# Altium integrated library TI Amplifiers and Linear Operational Amplifier High Speed.IntLib: 1100 symbols (part 11 of 44)
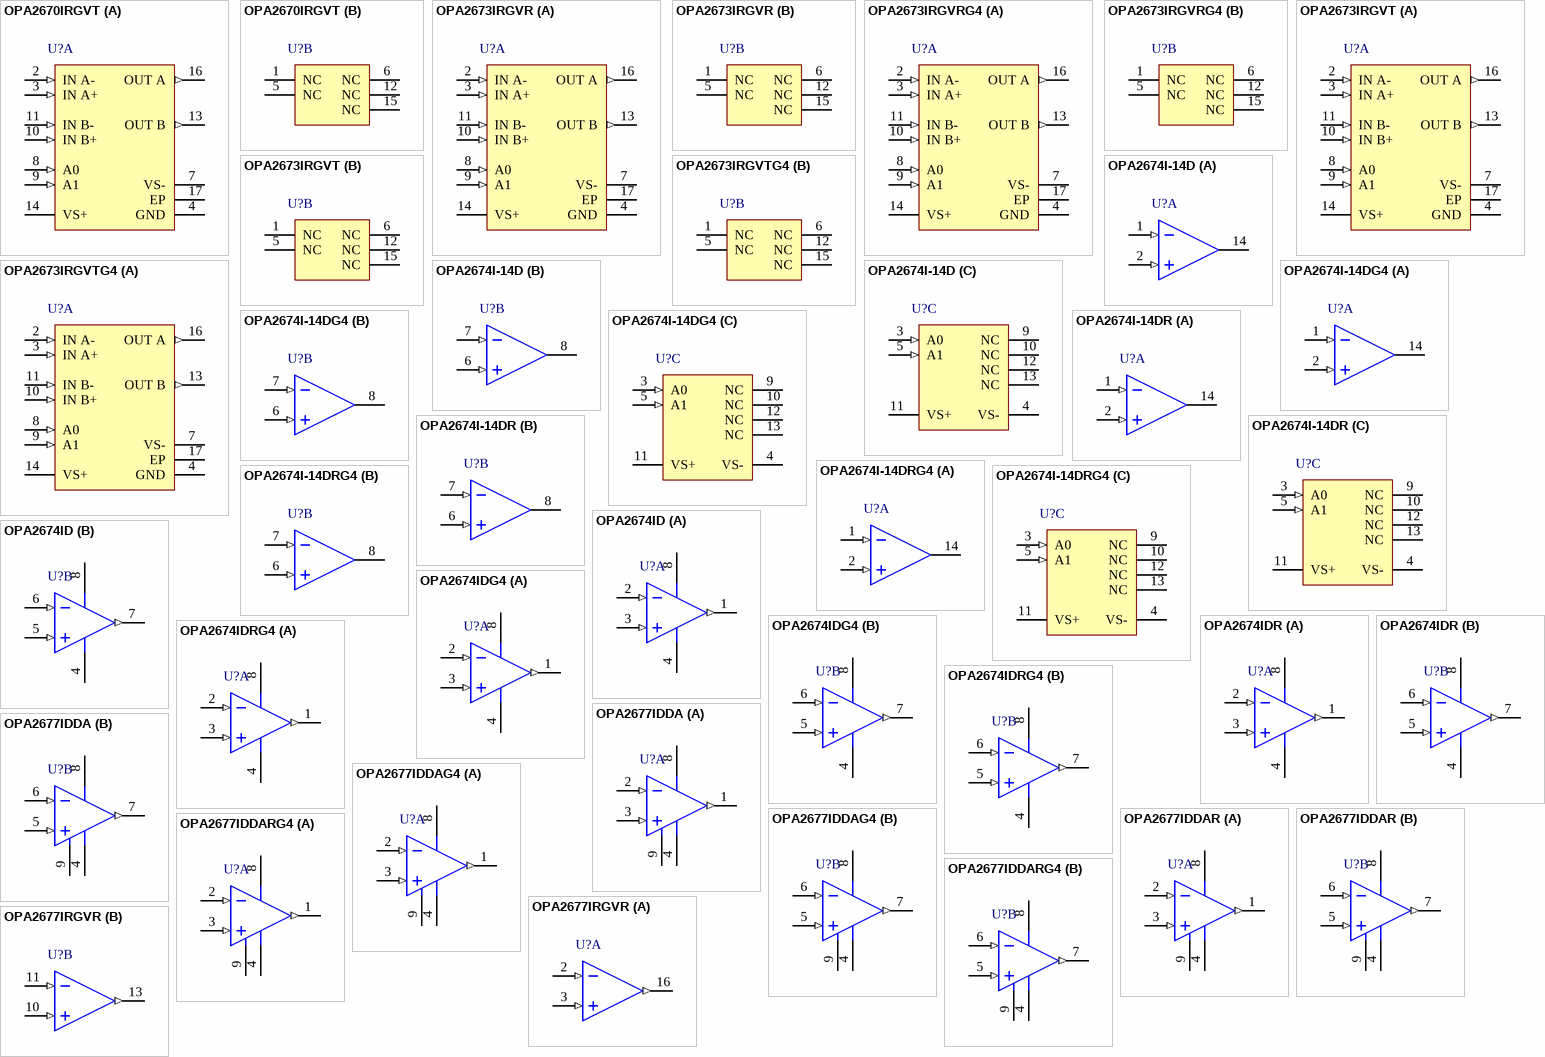
[diagram p61: symbols OPA2670IRGVT to OPA2677IRGVR]

## OPA2674ID
designator U?
Dual Wideband, High Output Current, Operational Amplifier with Current Limit, 5 to 12 V, -40 to 85 degC, 8-pin SOIC (D8), Green (RoHS & no Sb/Br); Manufacturer: Texas Instruments; PartNumber: OPA2674ID; 2nd Harmonic(dBc): 82; 3rd Harmonic(dBc): 93; @ MHz: 5; Acl, min stable gain(V/V): 1; BW @ Acl(MHz): 250; Diff Gain(%): 0.03; Diff Phase(deg): 0.01; Iib(Max)(nA): 35000; Io(Typ)(mA): 500; Iq per channel(Max)(mA): 19.2; Number of Channels: 2; Slew Rate(Typ)(V/us): 2000; Sub Family: High Output Current Amplifier (>=50mA), High Speed Amplifier (>=50MHz); THD (Fc is 1 MHz)(Typ)(dB): -86; Vio(Max)(mV): 5.3; Vs(Max)(V): 12; DatasheetVersion: SBOS270C; PackageVersion: 4040047-3/M, 06/2011; PackageReference: D8; PackageDescription: 8-Pin Plastic Small Outline, Body 4.9 x 3.9 mm, Pitch 1.27 mm; Supplier 1: Digi-Key; Supplier Part Number 1: 296-15212-5-ND; Supplier 2: Newark; Supplier Part Number 2: 73H4297; Supplier 3: Mouser; Supplier Part Number 3: 595-OPA2674ID; Eco-Plan: Green (RoHS & no Sb/Br); Vn at Flatband(Typ)(nV/rtHz): 2; Vs(Min)(V): 5; Mounting Technology: Surface Mount; Code_JEDEC: MS-012; ComponentLink1Description: Manufacturer URL; ComponentLink1URL: http://www.ti.com/; ComponentLink2Description: Datasheet; ComponentLink2URL: http://www.ti.com/general/docs/lit/getliterature.tsp?genericPartNumber=OPA2674&fileType=pdf; ComponentLink3Description: Package Specification; ComponentLink3URL: http://www.ti.com/litv/pdf/msoi002j
footprint TI-D8_N (SOIC, 8-Leads, Body 4.9x3.9mm, Pitch 1.27mm, IPC Medium Density)
footprint TI-D8_L (SOIC, 8-Leads, Body 4.9x3.9mm, Pitch 1.27mm, IPC High Density)
footprint TI-D8_M (SOIC, 8-Leads, Body 4.9x3.9mm, Pitch 1.27mm, IPC Low Density)
pins on every part: 4 VS- (power), 8 VS+ (power)
part A pins: 1 OUT A (out), 2 IN A- (in), 3 IN A+ (in)
part B pins: 5 IN B+ (in), 6 IN B- (in), 7 OUT B (out)

## OPA2674IDG4
designator U?
Dual Wideband, High Output Current, Operational Amplifier with Current Limit, 5 to 12 V, -40 to 85 degC, 8-pin SOIC (D8), Green (RoHS & no Sb/Br); Manufacturer: Texas Instruments; PartNumber: OPA2674IDG4; 2nd Harmonic(dBc): 82; 3rd Harmonic(dBc): 93; @ MHz: 5; Acl, min stable gain(V/V): 1; BW @ Acl(MHz): 250; Diff Gain(%): 0.03; Diff Phase(deg): 0.01; Iib(Max)(nA): 35000; Io(Typ)(mA): 500; Iq per channel(Max)(mA): 19.2; Number of Channels: 2; Slew Rate(Typ)(V/us): 2000; Sub Family: High Output Current Amplifier (>=50mA), High Speed Amplifier (>=50MHz); THD (Fc is 1 MHz)(Typ)(dB): -86; Vs(Max)(V): 12; DatasheetVersion: SBOS270C; PackageVersion: 4040047-3/M, 06/2011; PackageReference: D8; PackageDescription: 8-Pin Plastic Small Outline, Body 4.9 x 3.9 mm, Pitch 1.27 mm; Supplier 1: Digi-Key; Supplier Part Number 1: OPA2674IDG4-ND; Supplier 2: Farnell; Supplier Part Number 2: 1207107; Supplier 3: Newark; Supplier Part Number 3: 97K6817; Supplier 4: Mouser; Supplier Part Number 4: 595-OPA2674IDG4; Eco-Plan: Green (RoHS & no Sb/Br); Vio(Max)(mV): 1; Vn at Flatband(Typ)(nV/rtHz): 2; Vs(Min)(V): 5; Mounting Technology: Surface Mount; Code_JEDEC: MS-012; ComponentLink1Description: Manufacturer URL; ComponentLink1URL: http://www.ti.com/; ComponentLink2Description: Datasheet; ComponentLink2URL: http://www.ti.com/general/docs/lit/getliterature.tsp?genericPartNumber=OPA2674&fileType=pdf; ComponentLink3Description: Package Specification; ComponentLink3URL: http://www.ti.com/litv/pdf/msoi002j
footprint TI-D8_N (SOIC, 8-Leads, Body 4.9x3.9mm, Pitch 1.27mm, IPC Medium Density)
footprint TI-D8_L (SOIC, 8-Leads, Body 4.9x3.9mm, Pitch 1.27mm, IPC High Density)
footprint TI-D8_M (SOIC, 8-Leads, Body 4.9x3.9mm, Pitch 1.27mm, IPC Low Density)
pins on every part: 4 VS- (power), 8 VS+ (power)
part A pins: 1 OUT A (out), 2 IN A- (in), 3 IN A+ (in)
part B pins: 5 IN B+ (in), 6 IN B- (in), 7 OUT B (out)

## OPA2674IDR
designator U?
Dual Wideband, High Output Current, Operational Amplifier with Current Limit, 5 to 12 V, -40 to 85 degC, 8-pin SOIC (D8), Green (RoHS & no Sb/Br); Manufacturer: Texas Instruments; PartNumber: OPA2674IDR; 2nd Harmonic(dBc): 82; 3rd Harmonic(dBc): 93; @ MHz: 5; Acl, min stable gain(V/V): 1; BW @ Acl(MHz): 250; Diff Gain(%): 0.03; Diff Phase(deg): 0.01; Iib(Max)(nA): 35000; Io(Typ)(mA): 500; Iq per channel(Max)(mA): 19.2; Number of Channels: 2; Slew Rate(Typ)(V/us): 2000; Sub Family: High Output Current Amplifier (>=50mA), High Speed Amplifier (>=50MHz); THD (Fc is 1 MHz)(Typ)(dB): -86; Vs(Max)(V): 12; DatasheetVersion: SBOS270C; PackageVersion: 4040047-3/M, 06/2011; PackageReference: D8; PackageDescription: 8-Pin Plastic Small Outline, Body 4.9 x 3.9 mm, Pitch 1.27 mm; Supplier 1: Digi-Key; Supplier Part Number 1: OPA2674IDR-ND; Supplier 2: Newark; Supplier Part Number 2: 73H4298; Supplier 3: Mouser; Supplier Part Number 3: 595-OPA2674IDR; Eco-Plan: Green (RoHS & no Sb/Br); Vio(Max)(mV): 1; Vn at Flatband(Typ)(nV/rtHz): 2; Vs(Min)(V): 5; Mounting Technology: Surface Mount; Code_JEDEC: MS-012; ComponentLink1Description: Manufacturer URL; ComponentLink1URL: http://www.ti.com/; ComponentLink2Description: Datasheet; ComponentLink2URL: http://www.ti.com/general/docs/lit/getliterature.tsp?genericPartNumber=OPA2674&fileType=pdf; ComponentLink3Description: Package Specification; ComponentLink3URL: http://www.ti.com/litv/pdf/msoi002j
footprint TI-D8_N (SOIC, 8-Leads, Body 4.9x3.9mm, Pitch 1.27mm, IPC Medium Density)
footprint TI-D8_L (SOIC, 8-Leads, Body 4.9x3.9mm, Pitch 1.27mm, IPC High Density)
footprint TI-D8_M (SOIC, 8-Leads, Body 4.9x3.9mm, Pitch 1.27mm, IPC Low Density)
pins on every part: 4 VS- (power), 8 VS+ (power)
part A pins: 1 OUT A (out), 2 IN A- (in), 3 IN A+ (in)
part B pins: 5 IN B+ (in), 6 IN B- (in), 7 OUT B (out)

## OPA2674IDRG4
designator U?
Dual Wideband, High Output Current, Operational Amplifier with Current Limit, 5 to 12 V, -40 to 85 degC, 8-pin SOIC (D8), Green (RoHS & no Sb/Br); Manufacturer: Texas Instruments; PartNumber: OPA2674IDRG4; 2nd Harmonic(dBc): 82; 3rd Harmonic(dBc): 93; @ MHz: 5; Acl, min stable gain(V/V): 1; BW @ Acl(MHz): 250; Diff Gain(%): 0.03; Diff Phase(deg): 0.01; Iib(Max)(nA): 35000; Io(Typ)(mA): 500; Iq per channel(Max)(mA): 19.2; Number of Channels: 2; Slew Rate(Typ)(V/us): 2000; Sub Family: High Output Current Amplifier (>=50mA), High Speed Amplifier (>=50MHz); THD (Fc is 1 MHz)(Typ)(dB): -86; Vs(Max)(V): 12; DatasheetVersion: SBOS270C; PackageVersion: 4040047-3/M, 06/2011; PackageReference: D8; PackageDescription: 8-Pin Plastic Small Outline, Body 4.9 x 3.9 mm, Pitch 1.27 mm; Supplier 1: Digi-Key; Supplier Part Number 1: OPA2674IDRG4-ND; Supplier 2: Mouser; Supplier Part Number 2: 595-OPA2674IDRG4; Eco-Plan: Green (RoHS & no Sb/Br); Vio(Max)(mV): 1; Vn at Flatband(Typ)(nV/rtHz): 2; Vs(Min)(V): 5; Mounting Technology: Surface Mount; Code_JEDEC: MS-012; ComponentLink1Description: Manufacturer URL; ComponentLink1URL: http://www.ti.com/; ComponentLink2Description: Datasheet; ComponentLink2URL: http://www.ti.com/general/docs/lit/getliterature.tsp?genericPartNumber=OPA2674&fileType=pdf; ComponentLink3Description: Package Specification; ComponentLink3URL: http://www.ti.com/litv/pdf/msoi002j
footprint TI-D8_N (SOIC, 8-Leads, Body 4.9x3.9mm, Pitch 1.27mm, IPC Medium Density)
footprint TI-D8_L (SOIC, 8-Leads, Body 4.9x3.9mm, Pitch 1.27mm, IPC High Density)
footprint TI-D8_M (SOIC, 8-Leads, Body 4.9x3.9mm, Pitch 1.27mm, IPC Low Density)
pins on every part: 4 VS- (power), 8 VS+ (power)
part A pins: 1 OUT A (out), 2 IN A- (in), 3 IN A+ (in)
part B pins: 5 IN B+ (in), 6 IN B- (in), 7 OUT B (out)

## OPA2677IDDA
designator U?
SpeedPlus(TM) Dual, Wideband, High Output Current Operational Amplifier, 5 to 12 V, -40 to 85 degC, 8-pin SOP (DDA8), Green (RoHS & no Sb/Br); Manufacturer: Texas Instruments; PartNumber: OPA2677IDDA; 2nd Harmonic(dBc): 80; @ MHz: 5; Acl, min stable gain(V/V): 1; BW @ Acl(MHz): 220; Diff Gain(%): 0.03; Diff Phase(deg): 0.01; Iib(Max)(nA): 35000; Io(Typ)(mA): 500; Iq per channel(Max)(mA): 19.5; Number of Channels: 2; Slew Rate(Typ)(V/us): 1800; Sub Family: High Output Current Amplifier (>=50mA), High Speed Amplifier (>=50MHz); THD (Fc is 1 MHz)(Typ)(dB): -75; Vio(Max)(mV): 5.5; Vs(Max)(V): 12; DatasheetVersion: SBOS126I; PackageVersion: 4202561/F, 12/2011; PackageReference: DDA8-2745X2245TP; PackageDescription: 8-Pin PowerPAD(TM) Plastic Small Outline, Body 3.9 x 4.9 mm, Pitch 1.27 mm; Supplier 1: Digi-Key; Supplier Part Number 1: 296-33472-5-ND; Supplier 2: Newark; Supplier Part Number 2: 72M4283; Supplier 3: Mouser; Supplier Part Number 3: 595-OPA2677IDDA; 3rd Harmonic(dBc): 80; Eco-Plan: Green (RoHS & no Sb/Br); Vn at Flatband(Typ)(nV/rtHz): 2; Vs(Min)(V): 5; Mounting Technology: Surface Mount; Code_JEDEC: MS-012; ComponentLink1Description: Manufacturer URL; ComponentLink1URL: http://www.ti.com/; ComponentLink2Description: Datasheet; ComponentLink2URL: http://www.ti.com/general/docs/lit/getliterature.tsp?genericPartNumber=OPA2677&fileType=pdf; ComponentLink3Description: Package Specification; ComponentLink3URL: http://www.ti.com/litv/pdf/mpds092e
footprint TI-DDA8-2745X2245TP_N (SOP, 8-Leads, Body 4.9x3.9mm, Pitch 1.27mm, Thermal Pad 2.745x2.245mm, IPC Medium Density)
footprint TI-DDA8-2745X2245TP_L (SOP, 8-Leads, Body 4.9x3.9mm, Pitch 1.27mm, Thermal Pad 2.745x2.245mm, IPC High Density)
footprint TI-DDA8-2745X2245TP_M (SOP, 8-Leads, Body 4.9x3.9mm, Pitch 1.27mm, Thermal Pad 2.745x2.245mm, IPC Low Density)
pins on every part: 4 VS- (power), 8 VS+ (power), 9 EP (power)
part A pins: 1 OUT A (out), 2 IN A- (in), 3 IN A+ (in)
part B pins: 5 IN B+ (in), 6 IN B- (in), 7 OUT B (out)

## OPA2677IDDAG4
designator U?
SpeedPlus(TM) Dual, Wideband, High Output Current Operational Amplifier, 5 to 12 V, -40 to 85 degC, 8-pin SOP (DDA8), Green (RoHS & no Sb/Br); Manufacturer: Texas Instruments; PartNumber: OPA2677IDDAG4; 2nd Harmonic(dBc): 80; @ MHz: 5; Acl, min stable gain(V/V): 1; BW @ Acl(MHz): 220; Diff Gain(%): 0.03; Diff Phase(deg): 0.01; Iib(Max)(nA): 35000; Io(Typ)(mA): 500; Iq per channel(Max)(mA): 19.5; Number of Channels: 2; Slew Rate(Typ)(V/us): 1800; Sub Family: High Output Current Amplifier (>=50mA), High Speed Amplifier (>=50MHz); THD (Fc is 1 MHz)(Typ)(dB): -75; Vio(Max)(mV): 5.5; Vs(Max)(V): 12; DatasheetVersion: SBOS126I; PackageVersion: 4202561/F, 12/2011; PackageReference: DDA8-2745X2245TP; PackageDescription: 8-Pin PowerPAD(TM) Plastic Small Outline, Body 3.9 x 4.9 mm, Pitch 1.27 mm; Supplier 1: Digi-Key; Supplier Part Number 1: OPA2677IDDAG4-ND; Supplier 2: Mouser; Supplier Part Number 2: 595-OPA2677IDDAG4; 3rd Harmonic(dBc): 80; Eco-Plan: Green (RoHS & no Sb/Br); Vn at Flatband(Typ)(nV/rtHz): 2; Vs(Min)(V): 5; Mounting Technology: Surface Mount; Code_JEDEC: MS-012; ComponentLink1Description: Manufacturer URL; ComponentLink1URL: http://www.ti.com/; ComponentLink2Description: Datasheet; ComponentLink2URL: http://www.ti.com/general/docs/lit/getliterature.tsp?genericPartNumber=OPA2677&fileType=pdf; ComponentLink3Description: Package Specification; ComponentLink3URL: http://www.ti.com/litv/pdf/mpds092e
footprint TI-DDA8-2745X2245TP_N (SOP, 8-Leads, Body 4.9x3.9mm, Pitch 1.27mm, Thermal Pad 2.745x2.245mm, IPC Medium Density)
footprint TI-DDA8-2745X2245TP_L (SOP, 8-Leads, Body 4.9x3.9mm, Pitch 1.27mm, Thermal Pad 2.745x2.245mm, IPC High Density)
footprint TI-DDA8-2745X2245TP_M (SOP, 8-Leads, Body 4.9x3.9mm, Pitch 1.27mm, Thermal Pad 2.745x2.245mm, IPC Low Density)
pins on every part: 4 VS- (power), 8 VS+ (power), 9 EP (power)
part A pins: 1 OUT A (out), 2 IN A- (in), 3 IN A+ (in)
part B pins: 5 IN B+ (in), 6 IN B- (in), 7 OUT B (out)

## OPA2677IDDAR
designator U?
SpeedPlus(TM) Dual, Wideband, High Output Current Operational Amplifier, 5 to 12 V, -40 to 85 degC, 8-pin SOP (DDA8), Green (RoHS & no Sb/Br); Manufacturer: Texas Instruments; PartNumber: OPA2677IDDAR; 2nd Harmonic(dBc): 80; @ MHz: 5; Acl, min stable gain(V/V): 1; BW @ Acl(MHz): 220; Diff Gain(%): 0.03; Diff Phase(deg): 0.01; Iib(Max)(nA): 35000; Io(Typ)(mA): 500; Iq per channel(Max)(mA): 19.5; Number of Channels: 2; Slew Rate(Typ)(V/us): 1800; Sub Family: High Output Current Amplifier (>=50mA), High Speed Amplifier (>=50MHz); THD (Fc is 1 MHz)(Typ)(dB): -75; Vio(Max)(mV): 5.5; Vs(Max)(V): 12; DatasheetVersion: SBOS126I; PackageVersion: 4202561/F, 12/2011; PackageReference: DDA8-2745X2245TP; PackageDescription: 8-Pin PowerPAD(TM) Plastic Small Outline, Body 3.9 x 4.9 mm, Pitch 1.27 mm; Supplier 1: Digi-Key; Supplier Part Number 1: 296-22968-2-ND; Supplier 2: Digi-Key; Supplier Part Number 2: 296-22968-1-ND; Supplier 3: Digi-Key; Supplier Part Number 3: 296-22968-6-ND; Supplier 4: Mouser; Supplier Part Number 4: 595-OPA2677IDDAR; 3rd Harmonic(dBc): 80; Eco-Plan: Green (RoHS & no Sb/Br); Vn at Flatband(Typ)(nV/rtHz): 2; Vs(Min)(V): 5; Mounting Technology: Surface Mount; Code_JEDEC: MS-012; ComponentLink1Description: Manufacturer URL; ComponentLink1URL: http://www.ti.com/; ComponentLink2Description: Datasheet; ComponentLink2URL: http://www.ti.com/general/docs/lit/getliterature.tsp?genericPartNumber=OPA2677&fileType=pdf; ComponentLink3Description: Package Specification; ComponentLink3URL: http://www.ti.com/litv/pdf/mpds092e
footprint TI-DDA8-2745X2245TP_N (SOP, 8-Leads, Body 4.9x3.9mm, Pitch 1.27mm, Thermal Pad 2.745x2.245mm, IPC Medium Density)
footprint TI-DDA8-2745X2245TP_L (SOP, 8-Leads, Body 4.9x3.9mm, Pitch 1.27mm, Thermal Pad 2.745x2.245mm, IPC High Density)
footprint TI-DDA8-2745X2245TP_M (SOP, 8-Leads, Body 4.9x3.9mm, Pitch 1.27mm, Thermal Pad 2.745x2.245mm, IPC Low Density)
pins on every part: 4 VS- (power), 8 VS+ (power), 9 EP (power)
part A pins: 1 OUT A (out), 2 IN A- (in), 3 IN A+ (in)
part B pins: 5 IN B+ (in), 6 IN B- (in), 7 OUT B (out)

## OPA2677IDDARG4
designator U?
SpeedPlus(TM) Dual, Wideband, High Output Current Operational Amplifier, 5 to 12 V, -40 to 85 degC, 8-pin SOP (DDA8), Green (RoHS & no Sb/Br); Manufacturer: Texas Instruments; PartNumber: OPA2677IDDARG4; 2nd Harmonic(dBc): 80; @ MHz: 5; Acl, min stable gain(V/V): 1; BW @ Acl(MHz): 220; Diff Gain(%): 0.03; Diff Phase(deg): 0.01; Iib(Max)(nA): 35000; Io(Typ)(mA): 500; Iq per channel(Max)(mA): 19.5; Number of Channels: 2; Slew Rate(Typ)(V/us): 1800; Sub Family: High Output Current Amplifier (>=50mA), High Speed Amplifier (>=50MHz); THD (Fc is 1 MHz)(Typ)(dB): -75; Vio(Max)(mV): 5.5; Vs(Max)(V): 12; DatasheetVersion: SBOS126I; PackageVersion: 4202561/F, 12/2011; PackageReference: DDA8-2745X2245TP; PackageDescription: 8-Pin PowerPAD(TM) Plastic Small Outline, Body 3.9 x 4.9 mm, Pitch 1.27 mm; Supplier 1: Digi-Key; Supplier Part Number 1: OPA2677IDDARG4-ND; Supplier 2: Mouser; Supplier Part Number 2: 595-OPA2677IDDARG4; 3rd Harmonic(dBc): 80; Eco-Plan: Green (RoHS & no Sb/Br); Vn at Flatband(Typ)(nV/rtHz): 2; Vs(Min)(V): 5; Mounting Technology: Surface Mount; Code_JEDEC: MS-012; ComponentLink1Description: Manufacturer URL; ComponentLink1URL: http://www.ti.com/; ComponentLink2Description: Datasheet; ComponentLink2URL: http://www.ti.com/general/docs/lit/getliterature.tsp?genericPartNumber=OPA2677&fileType=pdf; ComponentLink3Description: Package Specification; ComponentLink3URL: http://www.ti.com/litv/pdf/mpds092e
footprint TI-DDA8-2745X2245TP_N (SOP, 8-Leads, Body 4.9x3.9mm, Pitch 1.27mm, Thermal Pad 2.745x2.245mm, IPC Medium Density)
footprint TI-DDA8-2745X2245TP_L (SOP, 8-Leads, Body 4.9x3.9mm, Pitch 1.27mm, Thermal Pad 2.745x2.245mm, IPC High Density)
footprint TI-DDA8-2745X2245TP_M (SOP, 8-Leads, Body 4.9x3.9mm, Pitch 1.27mm, Thermal Pad 2.745x2.245mm, IPC Low Density)
pins on every part: 4 VS- (power), 8 VS+ (power), 9 EP (power)
part A pins: 1 OUT A (out), 2 IN A- (in), 3 IN A+ (in)
part B pins: 5 IN B+ (in), 6 IN B- (in), 7 OUT B (out)

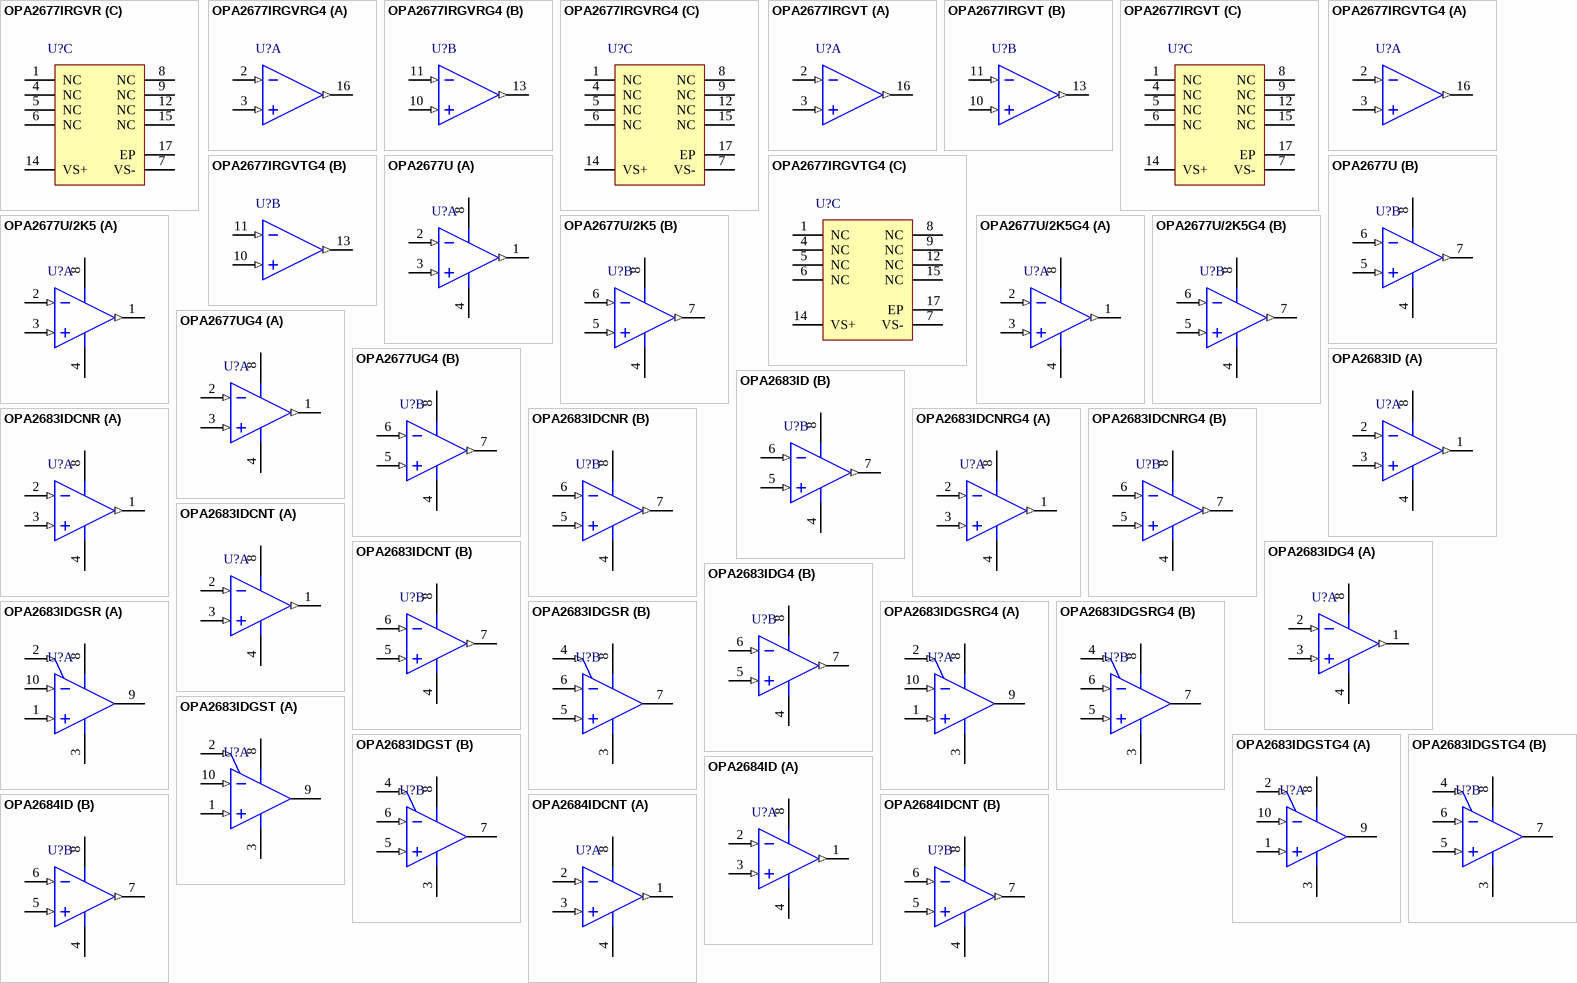
[diagram p10: symbols OPA2677IRGVR to OPA2684IDCNT]

## OPA2677IRGVR
designator U?
SpeedPlus(TM) Dual, Wideband, High Output Current Operational Amplifier, 5 to 12 V, -40 to 85 degC, 16-pin QFN (RGV16), Green (RoHS & no Sb/Br); Manufacturer: Texas Instruments; PartNumber: OPA2677IRGVR; 2nd Harmonic(dBc): 80; @ MHz: 5; Acl, min stable gain(V/V): 1; BW @ Acl(MHz): 220; Diff Gain(%): 0.03; Diff Phase(deg): 0.01; Iib(Max)(nA): 35000; Io(Typ)(mA): 500; Iq per channel(Max)(mA): 19.5; Number of Channels: 2; Slew Rate(Typ)(V/us): 1800; Sub Family: High Output Current Amplifier (>=50mA), High Speed Amplifier (>=50MHz); THD (Fc is 1 MHz)(Typ)(dB): -75; Vio(Max)(mV): 5.5; Vs(Max)(V): 12; DatasheetVersion: SBOS126I; PackageVersion: 4203497/F, 06/2011; PackageReference: RGV16-2160X2160TP; PackageDescription: 16-Pin Plastic Quad Flatpack No-Lead, Body 4 x 4 mm, Pitch 0.65 mm; Supplier 1: Digi-Key; Supplier Part Number 1: OPA2677IRGVR-ND; Supplier 2: Newark; Supplier Part Number 2: 80K2654; Supplier 3: Mouser; Supplier Part Number 3: 595-OPA2677IRGVR; 3rd Harmonic(dBc): 80; Eco-Plan: Green (RoHS & no Sb/Br); Vn at Flatband(Typ)(nV/rtHz): 2; Vs(Min)(V): 5; Mounting Technology: Surface Mount; Code_JEDEC: MO-220; ComponentLink1Description: Manufacturer URL; ComponentLink1URL: http://www.ti.com/; ComponentLink2Description: Datasheet; ComponentLink2URL: http://www.ti.com/general/docs/lit/getliterature.tsp?genericPartNumber=OPA2677&fileType=pdf; ComponentLink3Description: Package Specification; ComponentLink3URL: http://www.ti.com/litv/pdf/mpqf121e
footprint TI-RGV16-2160X2160TP_V (QFN, 16-Leads, Body 4x4mm, Pitch 0.65mm, Thermal Pad 2.16 x 2.16mm)
part A pins: 2 IN A- (in), 3 IN A+ (in), 16 OUT A (out)
part B pins: 10 IN B+ (in), 11 IN B- (in), 13 OUT B (out)
part C pins: 1 NC, 4 NC, 5 NC, 6 NC, 7 VS- (power), 8 NC, 9 NC, 12 NC, 14 VS+ (power), 15 NC, 17 EP (power)

## OPA2677IRGVRG4
designator U?
SpeedPlus(TM) Dual, Wideband, High Output Current Operational Amplifier, 5 to 12 V, -40 to 85 degC, 16-pin QFN (RGV16), Green (RoHS & no Sb/Br); Manufacturer: Texas Instruments; PartNumber: OPA2677IRGVRG4; 2nd Harmonic(dBc): 80; @ MHz: 5; Acl, min stable gain(V/V): 1; BW @ Acl(MHz): 220; Diff Gain(%): 0.03; Diff Phase(deg): 0.01; Iib(Max)(nA): 35000; Io(Typ)(mA): 500; Iq per channel(Max)(mA): 19.5; Number of Channels: 2; Slew Rate(Typ)(V/us): 1800; Sub Family: High Output Current Amplifier (>=50mA), High Speed Amplifier (>=50MHz); THD (Fc is 1 MHz)(Typ)(dB): -75; Vio(Max)(mV): 5.5; Vs(Max)(V): 12; DatasheetVersion: SBOS126I; PackageVersion: 4203497/F, 06/2011; PackageReference: RGV16-2160X2160TP; PackageDescription: 16-Pin Plastic Quad Flatpack No-Lead, Body 4 x 4 mm, Pitch 0.65 mm; Supplier 1: Digi-Key; Supplier Part Number 1: OPA2677IRGVRG4-ND; Supplier 2: Mouser; Supplier Part Number 2: 595-OPA2677IRGVRG4; 3rd Harmonic(dBc): 80; Eco-Plan: Green (RoHS & no Sb/Br); Vn at Flatband(Typ)(nV/rtHz): 2; Vs(Min)(V): 5; Mounting Technology: Surface Mount; Code_JEDEC: MO-220; ComponentLink1Description: Manufacturer URL; ComponentLink1URL: http://www.ti.com/; ComponentLink2Description: Datasheet; ComponentLink2URL: http://www.ti.com/general/docs/lit/getliterature.tsp?genericPartNumber=OPA2677&fileType=pdf; ComponentLink3Description: Package Specification; ComponentLink3URL: http://www.ti.com/litv/pdf/mpqf121e
footprint TI-RGV16-2160X2160TP_V (QFN, 16-Leads, Body 4x4mm, Pitch 0.65mm, Thermal Pad 2.16 x 2.16mm)
part A pins: 2 IN A- (in), 3 IN A+ (in), 16 OUT A (out)
part B pins: 10 IN B+ (in), 11 IN B- (in), 13 OUT B (out)
part C pins: 1 NC, 4 NC, 5 NC, 6 NC, 7 VS- (power), 8 NC, 9 NC, 12 NC, 14 VS+ (power), 15 NC, 17 EP (power)

## OPA2677IRGVT
designator U?
SpeedPlus(TM) Dual, Wideband, High Output Current Operational Amplifier, 5 to 12 V, -40 to 85 degC, 16-pin QFN (RGV16), Green (RoHS & no Sb/Br); Manufacturer: Texas Instruments; PartNumber: OPA2677IRGVT; 2nd Harmonic(dBc): 80; @ MHz: 5; Acl, min stable gain(V/V): 1; BW @ Acl(MHz): 220; Diff Gain(%): 0.03; Diff Phase(deg): 0.01; Iib(Max)(nA): 35000; Io(Typ)(mA): 500; Iq per channel(Max)(mA): 19.5; Number of Channels: 2; Slew Rate(Typ)(V/us): 1800; Sub Family: High Output Current Amplifier (>=50mA), High Speed Amplifier (>=50MHz); THD (Fc is 1 MHz)(Typ)(dB): -75; Vio(Max)(mV): 5.5; Vs(Max)(V): 12; DatasheetVersion: SBOS126I; PackageVersion: 4203497/F, 06/2011; PackageReference: RGV16-2160X2160TP; PackageDescription: 16-Pin Plastic Quad Flatpack No-Lead, Body 4 x 4 mm, Pitch 0.65 mm; Supplier 1: Digi-Key; Supplier Part Number 1: 296-19471-2-ND; Supplier 2: Digi-Key; Supplier Part Number 2: 296-19471-1-ND; Supplier 3: Digi-Key; Supplier Part Number 3: 296-19471-6-ND; Supplier 4: Newark; Supplier Part Number 4: 80K2655; Supplier 5: Mouser; Supplier Part Number 5: 595-OPA2677IRGVT; 3rd Harmonic(dBc): 80; Eco-Plan: Green (RoHS & no Sb/Br); Vn at Flatband(Typ)(nV/rtHz): 2; Vs(Min)(V): 5; Mounting Technology: Surface Mount; Code_JEDEC: MO-220; ComponentLink1Description: Manufacturer URL; ComponentLink1URL: http://www.ti.com/; ComponentLink2Description: Datasheet; ComponentLink2URL: http://www.ti.com/general/docs/lit/getliterature.tsp?genericPartNumber=OPA2677&fileType=pdf; ComponentLink3Description: Package Specification; ComponentLink3URL: http://www.ti.com/litv/pdf/mpqf121e
footprint TI-RGV16-2160X2160TP_V (QFN, 16-Leads, Body 4x4mm, Pitch 0.65mm, Thermal Pad 2.16 x 2.16mm)
part A pins: 2 IN A- (in), 3 IN A+ (in), 16 OUT A (out)
part B pins: 10 IN B+ (in), 11 IN B- (in), 13 OUT B (out)
part C pins: 1 NC, 4 NC, 5 NC, 6 NC, 7 VS- (power), 8 NC, 9 NC, 12 NC, 14 VS+ (power), 15 NC, 17 EP (power)

## OPA2677IRGVTG4
designator U?
SpeedPlus(TM) Dual, Wideband, High Output Current Operational Amplifier, 5 to 12 V, -40 to 85 degC, 16-pin QFN (RGV16), Green (RoHS & no Sb/Br); Manufacturer: Texas Instruments; PartNumber: OPA2677IRGVTG4; 2nd Harmonic(dBc): 80; @ MHz: 5; Acl, min stable gain(V/V): 1; BW @ Acl(MHz): 220; Diff Gain(%): 0.03; Diff Phase(deg): 0.01; Iib(Max)(nA): 35000; Io(Typ)(mA): 500; Iq per channel(Max)(mA): 19.5; Number of Channels: 2; Slew Rate(Typ)(V/us): 1800; Sub Family: High Output Current Amplifier (>=50mA), High Speed Amplifier (>=50MHz); THD (Fc is 1 MHz)(Typ)(dB): -75; Vio(Max)(mV): 5.5; Vs(Max)(V): 12; DatasheetVersion: SBOS126I; PackageVersion: 4203497/F, 06/2011; PackageReference: RGV16-2160X2160TP; PackageDescription: 16-Pin Plastic Quad Flatpack No-Lead, Body 4 x 4 mm, Pitch 0.65 mm; Supplier 1: Digi-Key; Supplier Part Number 1: OPA2677IRGVTG4-ND; Supplier 2: Mouser; Supplier Part Number 2: 595-OPA2677IRGVTG4; 3rd Harmonic(dBc): 80; Eco-Plan: Green (RoHS & no Sb/Br); Vn at Flatband(Typ)(nV/rtHz): 2; Vs(Min)(V): 5; Mounting Technology: Surface Mount; Code_JEDEC: MO-220; ComponentLink1Description: Manufacturer URL; ComponentLink1URL: http://www.ti.com/; ComponentLink2Description: Datasheet; ComponentLink2URL: http://www.ti.com/general/docs/lit/getliterature.tsp?genericPartNumber=OPA2677&fileType=pdf; ComponentLink3Description: Package Specification; ComponentLink3URL: http://www.ti.com/litv/pdf/mpqf121e
footprint TI-RGV16-2160X2160TP_V (QFN, 16-Leads, Body 4x4mm, Pitch 0.65mm, Thermal Pad 2.16 x 2.16mm)
part A pins: 2 IN A- (in), 3 IN A+ (in), 16 OUT A (out)
part B pins: 10 IN B+ (in), 11 IN B- (in), 13 OUT B (out)
part C pins: 1 NC, 4 NC, 5 NC, 6 NC, 7 VS- (power), 8 NC, 9 NC, 12 NC, 14 VS+ (power), 15 NC, 17 EP (power)

## OPA2677U
designator U?
SpeedPlus(TM) Dual, Wideband, High Output Current Operational Amplifier, 5 to 12 V, -40 to 85 degC, 8-pin SOIC (D8), Green (RoHS & no Sb/Br); Manufacturer: Texas Instruments; PartNumber: OPA2677U; 2nd Harmonic(dBc): 80; @ MHz: 5; Acl, min stable gain(V/V): 1; BW @ Acl(MHz): 220; Diff Gain(%): 0.03; Diff Phase(deg): 0.01; Iib(Max)(nA): 35000; Io(Typ)(mA): 500; Iq per channel(Max)(mA): 19.5; Number of Channels: 2; Slew Rate(Typ)(V/us): 1800; Sub Family: High Output Current Amplifier (>=50mA), High Speed Amplifier (>=50MHz); THD (Fc is 1 MHz)(Typ)(dB): -75; Vio(Max)(mV): 5.5; Vs(Max)(V): 12; DatasheetVersion: SBOS126I; PackageVersion: 4040047-3/M, 06/2011; PackageReference: D8; PackageDescription: 8-Pin Plastic Small Outline, Body 4.9 x 3.9 mm, Pitch 1.27 mm; Supplier 1: Digi-Key; Supplier Part Number 1: OPA2677U-ND; Supplier 2: Newark; Supplier Part Number 2: 34K8548; Supplier 3: Mouser; Supplier Part Number 3: 595-OPA2677U; 3rd Harmonic(dBc): 80; Eco-Plan: Green (RoHS & no Sb/Br); Vn at Flatband(Typ)(nV/rtHz): 2; Vs(Min)(V): 5; Mounting Technology: Surface Mount; Code_JEDEC: MS-012; ComponentLink1Description: Manufacturer URL; ComponentLink1URL: http://www.ti.com/; ComponentLink2Description: Datasheet; ComponentLink2URL: http://www.ti.com/general/docs/lit/getliterature.tsp?genericPartNumber=OPA2677&fileType=pdf; ComponentLink3Description: Package Specification; ComponentLink3URL: http://www.ti.com/litv/pdf/msoi002j
footprint TI-D8_N (SOIC, 8-Leads, Body 4.9x3.9mm, Pitch 1.27mm, IPC Medium Density)
footprint TI-D8_L (SOIC, 8-Leads, Body 4.9x3.9mm, Pitch 1.27mm, IPC High Density)
footprint TI-D8_M (SOIC, 8-Leads, Body 4.9x3.9mm, Pitch 1.27mm, IPC Low Density)
pins on every part: 4 VS- (power), 8 VS+ (power)
part A pins: 1 OUT A (out), 2 IN A- (in), 3 IN A+ (in)
part B pins: 5 IN B+ (in), 6 IN B- (in), 7 OUT B (out)

## OPA2677U/2K5
designator U?
SpeedPlus(TM) Dual, Wideband, High Output Current Operational Amplifier, 5 to 12 V, -40 to 85 degC, 8-pin SOIC (D8), Green (RoHS & no Sb/Br); Manufacturer: Texas Instruments; PartNumber: OPA2677U/2K5; 2nd Harmonic(dBc): 80; @ MHz: 5; Acl, min stable gain(V/V): 1; BW @ Acl(MHz): 220; Diff Gain(%): 0.03; Diff Phase(deg): 0.01; Iib(Max)(nA): 35000; Io(Typ)(mA): 500; Iq per channel(Max)(mA): 19.5; Number of Channels: 2; Slew Rate(Typ)(V/us): 1800; Sub Family: High Output Current Amplifier (>=50mA), High Speed Amplifier (>=50MHz); THD (Fc is 1 MHz)(Typ)(dB): -75; Vio(Max)(mV): 5.5; Vs(Max)(V): 12; DatasheetVersion: SBOS126I; PackageVersion: 4040047-3/M, 06/2011; PackageReference: D8; PackageDescription: 8-Pin Plastic Small Outline, Body 4.9 x 3.9 mm, Pitch 1.27 mm; Supplier 1: Digi-Key; Supplier Part Number 1: OPA2677U/2K5-ND; Supplier 2: Mouser; Supplier Part Number 2: 595-OPA2677U/2K5; 3rd Harmonic(dBc): 80; Eco-Plan: Green (RoHS & no Sb/Br); Vn at Flatband(Typ)(nV/rtHz): 2; Vs(Min)(V): 5; Mounting Technology: Surface Mount; Code_JEDEC: MS-012; ComponentLink1Description: Manufacturer URL; ComponentLink1URL: http://www.ti.com/; ComponentLink2Description: Datasheet; ComponentLink2URL: http://www.ti.com/general/docs/lit/getliterature.tsp?genericPartNumber=OPA2677&fileType=pdf; ComponentLink3Description: Package Specification; ComponentLink3URL: http://www.ti.com/litv/pdf/msoi002j
footprint TI-D8_N (SOIC, 8-Leads, Body 4.9x3.9mm, Pitch 1.27mm, IPC Medium Density)
footprint TI-D8_L (SOIC, 8-Leads, Body 4.9x3.9mm, Pitch 1.27mm, IPC High Density)
footprint TI-D8_M (SOIC, 8-Leads, Body 4.9x3.9mm, Pitch 1.27mm, IPC Low Density)
pins on every part: 4 VS- (power), 8 VS+ (power)
part A pins: 1 OUT A (out), 2 IN A- (in), 3 IN A+ (in)
part B pins: 5 IN B+ (in), 6 IN B- (in), 7 OUT B (out)

## OPA2677U/2K5G4
designator U?
SpeedPlus(TM) Dual, Wideband, High Output Current Operational Amplifier, 5 to 12 V, -40 to 85 degC, 8-pin SOIC (D8), Green (RoHS & no Sb/Br); Manufacturer: Texas Instruments; PartNumber: OPA2677U/2K5G4; 2nd Harmonic(dBc): 80; @ MHz: 5; Acl, min stable gain(V/V): 1; BW @ Acl(MHz): 220; Diff Gain(%): 0.03; Diff Phase(deg): 0.01; Iib(Max)(nA): 35000; Io(Typ)(mA): 500; Iq per channel(Max)(mA): 19.5; Number of Channels: 2; Slew Rate(Typ)(V/us): 1800; Sub Family: High Output Current Amplifier (>=50mA), High Speed Amplifier (>=50MHz); THD (Fc is 1 MHz)(Typ)(dB): -75; Vio(Max)(mV): 5.5; Vs(Max)(V): 12; DatasheetVersion: SBOS126I; PackageVersion: 4040047-3/M, 06/2011; PackageReference: D8; PackageDescription: 8-Pin Plastic Small Outline, Body 4.9 x 3.9 mm, Pitch 1.27 mm; Supplier 1: Digi-Key; Supplier Part Number 1: OPA2677U/2K5G4-ND; Supplier 2: Mouser; Supplier Part Number 2: 595-OPA2677U/2K5G4; 3rd Harmonic(dBc): 80; Eco-Plan: Green (RoHS & no Sb/Br); Vn at Flatband(Typ)(nV/rtHz): 2; Vs(Min)(V): 5; Mounting Technology: Surface Mount; Code_JEDEC: MS-012; ComponentLink1Description: Manufacturer URL; ComponentLink1URL: http://www.ti.com/; ComponentLink2Description: Datasheet; ComponentLink2URL: http://www.ti.com/general/docs/lit/getliterature.tsp?genericPartNumber=OPA2677&fileType=pdf; ComponentLink3Description: Package Specification; ComponentLink3URL: http://www.ti.com/litv/pdf/msoi002j
footprint TI-D8_N (SOIC, 8-Leads, Body 4.9x3.9mm, Pitch 1.27mm, IPC Medium Density)
footprint TI-D8_L (SOIC, 8-Leads, Body 4.9x3.9mm, Pitch 1.27mm, IPC High Density)
footprint TI-D8_M (SOIC, 8-Leads, Body 4.9x3.9mm, Pitch 1.27mm, IPC Low Density)
pins on every part: 4 VS- (power), 8 VS+ (power)
part A pins: 1 OUT A (out), 2 IN A- (in), 3 IN A+ (in)
part B pins: 5 IN B+ (in), 6 IN B- (in), 7 OUT B (out)

## OPA2677UG4
designator U?
SpeedPlus(TM) Dual, Wideband, High Output Current Operational Amplifier, 5 to 12 V, -40 to 85 degC, 8-pin SOIC (D8), Green (RoHS & no Sb/Br); Manufacturer: Texas Instruments; PartNumber: OPA2677UG4; 2nd Harmonic(dBc): 82; 3rd Harmonic(dBc): 93; @ MHz: 5; Acl, min stable gain(V/V): 1; BW @ Acl(MHz): 220; Diff Gain(%): 0.03; Diff Phase(deg): 0.01; Iib(Max)(nA): 45000; Io(Typ)(mA): 500; Iq per channel(Max)(mA): 19.5; Settling Time (0.1%)(Typ)(ns): 60; Slew Rate(Typ)(V/us): 2000; Sub Family: High Output Current Amplifier (>=50mA), High Speed Amplifier (>=50MHz); THD (Fc is 1 MHz)(Typ)(dB): -75; Vio(Max)(mV): 5.3; Vn at Flatband(Typ)(nV/rtHz): 3.1; Vs(Max)(V): 12; DatasheetVersion: SBOS126I; PackageVersion: 4040047-3/M, 06/2011; PackageReference: D8; PackageDescription: 8-Pin Plastic Small Outline, Body 4.9 x 3.9 mm, Pitch 1.27 mm; Supplier 1: Digi-Key; Supplier Part Number 1: OPA2677UG4-ND; Supplier 2: Mouser; Supplier Part Number 2: 595-OPA2677UG4; Eco-Plan: Green (RoHS & no Sb/Br); Number of Channels: 1; Vs(Min)(V): 5; Mounting Technology: Surface Mount; Code_JEDEC: MS-012; ComponentLink1Description: Manufacturer URL; ComponentLink1URL: http://www.ti.com/; ComponentLink2Description: Datasheet; ComponentLink2URL: http://www.ti.com/general/docs/lit/getliterature.tsp?genericPartNumber=OPA2677&fileType=pdf; ComponentLink3Description: Package Specification; ComponentLink3URL: http://www.ti.com/litv/pdf/msoi002j
footprint TI-D8_N (SOIC, 8-Leads, Body 4.9x3.9mm, Pitch 1.27mm, IPC Medium Density)
footprint TI-D8_L (SOIC, 8-Leads, Body 4.9x3.9mm, Pitch 1.27mm, IPC High Density)
footprint TI-D8_M (SOIC, 8-Leads, Body 4.9x3.9mm, Pitch 1.27mm, IPC Low Density)
pins on every part: 4 VS- (power), 8 VS+ (power)
part A pins: 1 OUT A (out), 2 IN A- (in), 3 IN A+ (in)
part B pins: 5 IN B+ (in), 6 IN B- (in), 7 OUT B (out)

## OPA2683ID
designator U?
Very Low Power, Dual Current Feedback Operational Amplifier, 5 to 12 V, -40 to 85 degC, 8-pin SOIC (D8), Green (RoHS & no Sb/Br); Manufacturer: Texas Instruments; PartNumber: OPA2683ID; 2nd Harmonic(dBc): 63; 3rd Harmonic(dBc): 67; @ MHz: 5; Acl, min stable gain(V/V): 1; BW @ Acl(MHz): 200; Diff Gain(%): 0.13; Diff Phase(deg): 0.06; Iib(Max)(nA): 5300; Io(Typ)(mA): 110; Iq per channel(Max)(mA): 1.03; Number of Channels: 2; Settling Time (0.1%)(Typ)(ns): 12; Slew Rate(Typ)(V/us): 540; Sub Family: High Output Current Amplifier (>=50mA), High Speed Amplifier (>=50MHz); THD (Fc is 1 MHz)(Typ)(dB): -90; Vio(Max)(mV): 1.5; Vn at Flatband(Typ)(nV/rtHz): 4.4; DatasheetVersion: SBOS244H; PackageVersion: 4040047-3/M, 06/2011; PackageReference: D8; PackageDescription: 8-Pin Plastic Small Outline, Body 4.9 x 3.9 mm, Pitch 1.27 mm; Supplier 1: Digi-Key; Supplier Part Number 1: 296-14172-5-ND; Supplier 2: Newark; Supplier Part Number 2: 21H3970; Supplier 3: Mouser; Supplier Part Number 3: 595-OPA2683ID; Eco-Plan: Green (RoHS & no Sb/Br); Vs(Max)(V): 12; Vs(Min)(V): 5; Mounting Technology: Surface Mount; Code_JEDEC: MS-012; ComponentLink1Description: Manufacturer URL; ComponentLink1URL: http://www.ti.com/; ComponentLink2Description: Datasheet; ComponentLink2URL: http://www.ti.com/general/docs/lit/getliterature.tsp?genericPartNumber=OPA2683&fileType=pdf; ComponentLink3Description: Package Specification; ComponentLink3URL: http://www.ti.com/litv/pdf/msoi002j
footprint TI-D8_N (SOIC, 8-Leads, Body 4.9x3.9mm, Pitch 1.27mm, IPC Medium Density)
footprint TI-D8_L (SOIC, 8-Leads, Body 4.9x3.9mm, Pitch 1.27mm, IPC High Density)
footprint TI-D8_M (SOIC, 8-Leads, Body 4.9x3.9mm, Pitch 1.27mm, IPC Low Density)
pins on every part: 4 VS- (power), 8 VS+ (power)
part A pins: 1 OUT A (out), 2 IN A- (in), 3 IN A+ (in)
part B pins: 5 IN B+ (in), 6 IN B- (in), 7 OUT B (out)

## OPA2683IDCNR
designator U?
Very Low Power, Dual Current Feedback Operational Amplifier, 5 to 12 V, -40 to 85 degC, 8-pin SOP (DCN8), Green (RoHS & no Sb/Br); Manufacturer: Texas Instruments; PartNumber: OPA2683IDCNR; 2nd Harmonic(dBc): 63; 3rd Harmonic(dBc): 67; @ MHz: 5; Acl, min stable gain(V/V): 1; BW @ Acl(MHz): 200; Diff Gain(%): 0.13; Diff Phase(deg): 0.06; Iib(Max)(nA): 5300; Io(Typ)(mA): 110; Iq per channel(Max)(mA): 1.03; Number of Channels: 2; Settling Time (0.1%)(Typ)(ns): 12; Slew Rate(Typ)(V/us): 540; Sub Family: High Output Current Amplifier (>=50mA), High Speed Amplifier (>=50MHz); THD (Fc is 1 MHz)(Typ)(dB): -90; Vio(Max)(mV): 1.5; Vn at Flatband(Typ)(nV/rtHz): 4.4; DatasheetVersion: SBOS244H; PackageVersion: 4202106/D, 11/2009; PackageReference: DCN8; PackageDescription: 8-Pin Plastic Small Outline, Body 1.6 x 2.9 mm, Pitch 0.65 mm; Supplier 1: Digi-Key; Supplier Part Number 1: OPA2683IDCNR-ND; Supplier 2: Mouser; Supplier Part Number 2: 595-OPA2683IDCNR; Eco-Plan: Green (RoHS & no Sb/Br); Vs(Max)(V): 12; Vs(Min)(V): 5; Mounting Technology: Surface Mount; Code_JEDEC: MO-178; ComponentLink1Description: Manufacturer URL; ComponentLink1URL: http://www.ti.com/; ComponentLink2Description: Datasheet; ComponentLink2URL: http://www.ti.com/general/docs/lit/getliterature.tsp?genericPartNumber=OPA2683&fileType=pdf; ComponentLink3Description: Package Specification; ComponentLink3URL: http://www.ti.com/lit/ml/mpds099c/mpds099c.pdf
footprint TI-DCN8_N (SOP, 8-Leads, Body 2.9x1.6mm, Pitch 0.65mm, IPC Medium Density)
footprint TI-DCN8_L (SOP, 8-Leads, Body 2.9x1.6mm, Pitch 0.65mm, IPC High Density)
footprint TI-DCN8_M (SOP, 8-Leads, Body 2.9x1.6mm, Pitch 0.65mm, IPC Low Density)
pins on every part: 4 VS- (power), 8 VS+ (power)
part A pins: 1 OUT A (out), 2 IN A- (in), 3 IN A+ (in)
part B pins: 5 IN B+ (in), 6 IN B- (in), 7 OUT B (out)

## OPA2683IDCNRG4
designator U?
Very Low Power, Dual Current Feedback Operational Amplifier, 5 to 12 V, -40 to 85 degC, 8-pin SOP (DCN8), Green (RoHS & no Sb/Br); Manufacturer: Texas Instruments; PartNumber: OPA2683IDCNRG4; 2nd Harmonic(dBc): 63; 3rd Harmonic(dBc): 67; @ MHz: 5; Acl, min stable gain(V/V): 1; BW @ Acl(MHz): 200; Diff Gain(%): 0.13; Diff Phase(deg): 0.06; Iib(Max)(nA): 5300; Io(Typ)(mA): 110; Iq per channel(Max)(mA): 1.03; Number of Channels: 2; Settling Time (0.1%)(Typ)(ns): 12; Slew Rate(Typ)(V/us): 540; Sub Family: High Output Current Amplifier (>=50mA), High Speed Amplifier (>=50MHz); THD (Fc is 1 MHz)(Typ)(dB): -90; Vio(Max)(mV): 1.5; Vn at Flatband(Typ)(nV/rtHz): 4.4; DatasheetVersion: SBOS244H; PackageVersion: 4202106/D, 11/2009; PackageReference: DCN8; PackageDescription: 8-Pin Plastic Small Outline, Body 1.6 x 2.9 mm, Pitch 0.65 mm; Supplier 1: Digi-Key; Supplier Part Number 1: OPA2683IDCNRG4-ND; Supplier 2: Mouser; Supplier Part Number 2: 595-OPA2683IDCNRG4; Eco-Plan: Green (RoHS & no Sb/Br); Vs(Max)(V): 12; Vs(Min)(V): 5; Mounting Technology: Surface Mount; Code_JEDEC: MO-178; ComponentLink1Description: Manufacturer URL; ComponentLink1URL: http://www.ti.com/; ComponentLink2Description: Datasheet; ComponentLink2URL: http://www.ti.com/general/docs/lit/getliterature.tsp?genericPartNumber=OPA2683&fileType=pdf; ComponentLink3Description: Package Specification; ComponentLink3URL: http://www.ti.com/lit/ml/mpds099c/mpds099c.pdf
footprint TI-DCN8_N (SOP, 8-Leads, Body 2.9x1.6mm, Pitch 0.65mm, IPC Medium Density)
footprint TI-DCN8_L (SOP, 8-Leads, Body 2.9x1.6mm, Pitch 0.65mm, IPC High Density)
footprint TI-DCN8_M (SOP, 8-Leads, Body 2.9x1.6mm, Pitch 0.65mm, IPC Low Density)
pins on every part: 4 VS- (power), 8 VS+ (power)
part A pins: 1 OUT A (out), 2 IN A- (in), 3 IN A+ (in)
part B pins: 5 IN B+ (in), 6 IN B- (in), 7 OUT B (out)

## OPA2683IDCNT
designator U?
Very Low Power, Dual Current Feedback Operational Amplifier, 5 to 12 V, -40 to 85 degC, 8-pin SOP (DCN8), Green (RoHS & no Sb/Br); Manufacturer: Texas Instruments; PartNumber: OPA2683IDCNT; 2nd Harmonic(dBc): 63; 3rd Harmonic(dBc): 67; @ MHz: 5; Acl, min stable gain(V/V): 1; BW @ Acl(MHz): 200; Diff Gain(%): 0.13; Diff Phase(deg): 0.06; Iib(Max)(nA): 5300; Io(Typ)(mA): 110; Iq per channel(Max)(mA): 1.03; Number of Channels: 2; Settling Time (0.1%)(Typ)(ns): 12; Slew Rate(Typ)(V/us): 540; Sub Family: High Output Current Amplifier (>=50mA), High Speed Amplifier (>=50MHz); THD (Fc is 1 MHz)(Typ)(dB): -90; Vio(Max)(mV): 1.5; Vn at Flatband(Typ)(nV/rtHz): 4.4; DatasheetVersion: SBOS244H; PackageVersion: 4202106/D, 11/2009; PackageReference: DCN8; PackageDescription: 8-Pin Plastic Small Outline, Body 1.6 x 2.9 mm, Pitch 0.65 mm; Supplier 1: Digi-Key; Supplier Part Number 1: 296-14173-2-ND; Supplier 2: Digi-Key; Supplier Part Number 2: 296-14173-1-ND; Supplier 3: Digi-Key; Supplier Part Number 3: 296-14173-6-ND; Supplier 4: Newark; Supplier Part Number 4: 21H3972; Supplier 5: Mouser; Supplier Part Number 5: 595-OPA2683IDCNT; Eco-Plan: Green (RoHS & no Sb/Br); Vs(Max)(V): 12; Vs(Min)(V): 5; Mounting Technology: Surface Mount; Code_JEDEC: MO-178; ComponentLink1Description: Manufacturer URL; ComponentLink1URL: http://www.ti.com/; ComponentLink2Description: Datasheet; ComponentLink2URL: http://www.ti.com/general/docs/lit/getliterature.tsp?genericPartNumber=OPA2683&fileType=pdf; ComponentLink3Description: Package Specification; ComponentLink3URL: http://www.ti.com/lit/ml/mpds099c/mpds099c.pdf
footprint TI-DCN8_N (SOP, 8-Leads, Body 2.9x1.6mm, Pitch 0.65mm, IPC Medium Density)
footprint TI-DCN8_L (SOP, 8-Leads, Body 2.9x1.6mm, Pitch 0.65mm, IPC High Density)
footprint TI-DCN8_M (SOP, 8-Leads, Body 2.9x1.6mm, Pitch 0.65mm, IPC Low Density)
pins on every part: 4 VS- (power), 8 VS+ (power)
part A pins: 1 OUT A (out), 2 IN A- (in), 3 IN A+ (in)
part B pins: 5 IN B+ (in), 6 IN B- (in), 7 OUT B (out)

## OPA2683IDG4
designator U?
Very Low Power, Dual Current Feedback Operational Amplifier, 5 to 12 V, -40 to 85 degC, 8-pin SOIC (D8), Green (RoHS & no Sb/Br); Manufacturer: Texas Instruments; PartNumber: OPA2683IDG4; 2nd Harmonic(dBc): 63; 3rd Harmonic(dBc): 67; @ MHz: 5; Acl, min stable gain(V/V): 1; BW @ Acl(MHz): 200; Diff Gain(%): 0.13; Diff Phase(deg): 0.06; Iib(Max)(nA): 5300; Io(Typ)(mA): 110; Iq per channel(Max)(mA): 1.03; Number of Channels: 2; Settling Time (0.1%)(Typ)(ns): 12; Slew Rate(Typ)(V/us): 540; Sub Family: High Output Current Amplifier (>=50mA), High Speed Amplifier (>=50MHz); THD (Fc is 1 MHz)(Typ)(dB): -90; Vio(Max)(mV): 1.5; Vn at Flatband(Typ)(nV/rtHz): 4.4; DatasheetVersion: SBOS244H; PackageVersion: 4040047-3/M, 06/2011; PackageReference: D8; PackageDescription: 8-Pin Plastic Small Outline, Body 4.9 x 3.9 mm, Pitch 1.27 mm; Supplier 1: Digi-Key; Supplier Part Number 1: OPA2683IDG4-ND; Supplier 2: Mouser; Supplier Part Number 2: 595-OPA2683IDG4; Eco-Plan: Green (RoHS & no Sb/Br); Vs(Max)(V): 12; Vs(Min)(V): 5; Mounting Technology: Surface Mount; Code_JEDEC: MS-012; ComponentLink1Description: Manufacturer URL; ComponentLink1URL: http://www.ti.com/; ComponentLink2Description: Datasheet; ComponentLink2URL: http://www.ti.com/general/docs/lit/getliterature.tsp?genericPartNumber=OPA2683&fileType=pdf; ComponentLink3Description: Package Specification; ComponentLink3URL: http://www.ti.com/litv/pdf/msoi002j
footprint TI-D8_N (SOIC, 8-Leads, Body 4.9x3.9mm, Pitch 1.27mm, IPC Medium Density)
footprint TI-D8_L (SOIC, 8-Leads, Body 4.9x3.9mm, Pitch 1.27mm, IPC High Density)
footprint TI-D8_M (SOIC, 8-Leads, Body 4.9x3.9mm, Pitch 1.27mm, IPC Low Density)
pins on every part: 4 VS- (power), 8 VS+ (power)
part A pins: 1 OUT A (out), 2 IN A- (in), 3 IN A+ (in)
part B pins: 5 IN B+ (in), 6 IN B- (in), 7 OUT B (out)

## OPA2683IDGSR
designator U?
Very Low Power, Dual Current Feedback Operational Amplifier, 5 to 12 V, -40 to 85 degC, 10-pin SOP (DGS10), Green (RoHS & no Sb/Br); Manufacturer: Texas Instruments; PartNumber: OPA2683IDGSR; 2nd Harmonic(dBc): 63; 3rd Harmonic(dBc): 67; @ MHz: 5; Acl, min stable gain(V/V): 1; BW @ Acl(MHz): 200; Diff Gain(%): 0.13; Diff Phase(deg): 0.06; Iib(Max)(nA): 5300; Io(Typ)(mA): 110; Iq per channel(Max)(mA): 1.03; Number of Channels: 2; Settling Time (0.1%)(Typ)(ns): 12; Slew Rate(Typ)(V/us): 540; Sub Family: High Output Current Amplifier (>=50mA), High Speed Amplifier (>=50MHz); THD (Fc is 1 MHz)(Typ)(dB): -90; Vio(Max)(mV): 1.5; Vn at Flatband(Typ)(nV/rtHz): 4.4; DatasheetVersion: SBOS244H; PackageVersion: 4073272/C, 02/2004; PackageReference: DGS10; PackageDescription: 10-Pin Plastic Small Outline, Body 3 x 3 mm, Pitch 0.5 mm; Supplier 1: Digi-Key; Supplier Part Number 1: OPA2683IDGSR-ND; Supplier 2: Mouser; Supplier Part Number 2: 595-OPA2683IDGSR; Eco-Plan: Green (RoHS & no Sb/Br); Vs(Max)(V): 12; Vs(Min)(V): 5; Mounting Technology: Surface Mount; Code_JEDEC: MO-153; ComponentLink1Description: Manufacturer URL; ComponentLink1URL: http://www.ti.com/; ComponentLink2Description: Datasheet; ComponentLink2URL: http://www.ti.com/general/docs/lit/getliterature.tsp?genericPartNumber=OPA2683&fileType=pdf; ComponentLink3Description: Package Specification; ComponentLink3URL: http://www.ti.com/lit/ml/mpds035b/mpds035b.pdf
footprint TI-DGS10_N (SOP, 10-Leads, Body 3x3mm, Pitch 0.5mm, IPC Medium Density)
footprint TI-DGS10_L (SOP, 10-Leads, Body 3x3mm, Pitch 0.5mm, IPC High Density)
footprint TI-DGS10_M (SOP, 10-Leads, Body 3x3mm, Pitch 0.5mm, IPC Low Density)
pins on every part: 3 VS- (power), 8 VS+ (power)
part A pins: 1 IN A+ (in), 2 ~{DIS A} (in), 9 OUT A (hiz), 10 IN A- (in)
part B pins: 4 ~{DIS B} (in), 5 IN B+ (in), 6 IN B- (in), 7 OUT B (hiz)

## OPA2683IDGSRG4
designator U?
Very Low Power, Dual Current Feedback Operational Amplifier, 5 to 12 V, -40 to 85 degC, 10-pin SOP (DGS10), Green (RoHS & no Sb/Br); Manufacturer: Texas Instruments; PartNumber: OPA2683IDGSRG4; 2nd Harmonic(dBc): 63; 3rd Harmonic(dBc): 67; @ MHz: 5; Acl, min stable gain(V/V): 1; BW @ Acl(MHz): 200; Diff Gain(%): 0.13; Diff Phase(deg): 0.06; Iib(Max)(nA): 5300; Io(Typ)(mA): 110; Iq per channel(Max)(mA): 1.03; Number of Channels: 2; Settling Time (0.1%)(Typ)(ns): 12; Slew Rate(Typ)(V/us): 540; Sub Family: High Output Current Amplifier (>=50mA), High Speed Amplifier (>=50MHz); THD (Fc is 1 MHz)(Typ)(dB): -90; Vio(Max)(mV): 1.5; Vn at Flatband(Typ)(nV/rtHz): 4.4; DatasheetVersion: SBOS244H; PackageVersion: 4073272/C, 02/2004; PackageReference: DGS10; PackageDescription: 10-Pin Plastic Small Outline, Body 3 x 3 mm, Pitch 0.5 mm; Supplier 1: Digi-Key; Supplier Part Number 1: OPA2683IDGSRG4-ND; Supplier 2: Mouser; Supplier Part Number 2: 595-OPA2683IDGSRG4; Eco-Plan: Green (RoHS & no Sb/Br); Vs(Max)(V): 12; Vs(Min)(V): 5; Mounting Technology: Surface Mount; Code_JEDEC: MO-153; ComponentLink1Description: Manufacturer URL; ComponentLink1URL: http://www.ti.com/; ComponentLink2Description: Datasheet; ComponentLink2URL: http://www.ti.com/general/docs/lit/getliterature.tsp?genericPartNumber=OPA2683&fileType=pdf; ComponentLink3Description: Package Specification; ComponentLink3URL: http://www.ti.com/lit/ml/mpds035b/mpds035b.pdf
footprint TI-DGS10_N (SOP, 10-Leads, Body 3x3mm, Pitch 0.5mm, IPC Medium Density)
footprint TI-DGS10_L (SOP, 10-Leads, Body 3x3mm, Pitch 0.5mm, IPC High Density)
footprint TI-DGS10_M (SOP, 10-Leads, Body 3x3mm, Pitch 0.5mm, IPC Low Density)
pins on every part: 3 VS- (power), 8 VS+ (power)
part A pins: 1 IN A+ (in), 2 ~{DIS A} (in), 9 OUT A (hiz), 10 IN A- (in)
part B pins: 4 ~{DIS B} (in), 5 IN B+ (in), 6 IN B- (in), 7 OUT B (hiz)

## OPA2683IDGST
designator U?
Very Low Power, Dual Current Feedback Operational Amplifier, 5 to 12 V, -40 to 85 degC, 10-pin SOP (DGS10), Green (RoHS & no Sb/Br); Manufacturer: Texas Instruments; PartNumber: OPA2683IDGST; 2nd Harmonic(dBc): 63; 3rd Harmonic(dBc): 67; @ MHz: 5; Acl, min stable gain(V/V): 1; BW @ Acl(MHz): 200; Diff Gain(%): 0.13; Diff Phase(deg): 0.06; Iib(Max)(nA): 5300; Io(Typ)(mA): 110; Iq per channel(Max)(mA): 1.03; Number of Channels: 2; Settling Time (0.1%)(Typ)(ns): 12; Slew Rate(Typ)(V/us): 540; Sub Family: High Output Current Amplifier (>=50mA), High Speed Amplifier (>=50MHz); THD (Fc is 1 MHz)(Typ)(dB): -90; Vio(Max)(mV): 1.5; Vn at Flatband(Typ)(nV/rtHz): 4.4; DatasheetVersion: SBOS244H; PackageVersion: 4073272/C, 02/2004; PackageReference: DGS10; PackageDescription: 10-Pin Plastic Small Outline, Body 3 x 3 mm, Pitch 0.5 mm; Supplier 1: Digi-Key; Supplier Part Number 1: 296-21392-2-ND; Supplier 2: Digi-Key; Supplier Part Number 2: 296-21392-1-ND; Supplier 3: Digi-Key; Supplier Part Number 3: 296-21392-6-ND; Supplier 4: Mouser; Supplier Part Number 4: 595-OPA2683IDGST; Eco-Plan: Green (RoHS & no Sb/Br); Vs(Max)(V): 12; Vs(Min)(V): 5; Mounting Technology: Surface Mount; Code_JEDEC: MO-153; ComponentLink1Description: Manufacturer URL; ComponentLink1URL: http://www.ti.com/; ComponentLink2Description: Datasheet; ComponentLink2URL: http://www.ti.com/general/docs/lit/getliterature.tsp?genericPartNumber=OPA2683&fileType=pdf; ComponentLink3Description: Package Specification; ComponentLink3URL: http://www.ti.com/lit/ml/mpds035b/mpds035b.pdf
footprint TI-DGS10_N (SOP, 10-Leads, Body 3x3mm, Pitch 0.5mm, IPC Medium Density)
footprint TI-DGS10_L (SOP, 10-Leads, Body 3x3mm, Pitch 0.5mm, IPC High Density)
footprint TI-DGS10_M (SOP, 10-Leads, Body 3x3mm, Pitch 0.5mm, IPC Low Density)
pins on every part: 3 VS- (power), 8 VS+ (power)
part A pins: 1 IN A+ (in), 2 ~{DIS A} (in), 9 OUT A (hiz), 10 IN A- (in)
part B pins: 4 ~{DIS B} (in), 5 IN B+ (in), 6 IN B- (in), 7 OUT B (hiz)

## OPA2683IDGSTG4
designator U?
Very Low Power, Dual Current Feedback Operational Amplifier, 5 to 12 V, -40 to 85 degC, 10-pin SOP (DGS10), Green (RoHS & no Sb/Br); Manufacturer: Texas Instruments; PartNumber: OPA2683IDGSTG4; 2nd Harmonic(dBc): 63; 3rd Harmonic(dBc): 67; @ MHz: 5; Acl, min stable gain(V/V): 1; BW @ Acl(MHz): 200; Diff Gain(%): 0.13; Diff Phase(deg): 0.06; Iib(Max)(nA): 5300; Io(Typ)(mA): 110; Iq per channel(Max)(mA): 1.03; Number of Channels: 2; Settling Time (0.1%)(Typ)(ns): 12; Slew Rate(Typ)(V/us): 540; Sub Family: High Output Current Amplifier (>=50mA), High Speed Amplifier (>=50MHz); THD (Fc is 1 MHz)(Typ)(dB): -90; Vio(Max)(mV): 1.5; Vn at Flatband(Typ)(nV/rtHz): 4.4; DatasheetVersion: SBOS244H; PackageVersion: 4073272/C, 02/2004; PackageReference: DGS10; PackageDescription: 10-Pin Plastic Small Outline, Body 3 x 3 mm, Pitch 0.5 mm; Supplier 1: Digi-Key; Supplier Part Number 1: OPA2683IDGSTG4-ND; Supplier 2: Mouser; Supplier Part Number 2: 595-OPA2683IDGSTG4; Eco-Plan: Green (RoHS & no Sb/Br); Vs(Max)(V): 12; Vs(Min)(V): 5; Mounting Technology: Surface Mount; Code_JEDEC: MO-153; ComponentLink1Description: Manufacturer URL; ComponentLink1URL: http://www.ti.com/; ComponentLink2Description: Datasheet; ComponentLink2URL: http://www.ti.com/general/docs/lit/getliterature.tsp?genericPartNumber=OPA2683&fileType=pdf; ComponentLink3Description: Package Specification; ComponentLink3URL: http://www.ti.com/lit/ml/mpds035b/mpds035b.pdf
footprint TI-DGS10_N (SOP, 10-Leads, Body 3x3mm, Pitch 0.5mm, IPC Medium Density)
footprint TI-DGS10_L (SOP, 10-Leads, Body 3x3mm, Pitch 0.5mm, IPC High Density)
footprint TI-DGS10_M (SOP, 10-Leads, Body 3x3mm, Pitch 0.5mm, IPC Low Density)
pins on every part: 3 VS- (power), 8 VS+ (power)
part A pins: 1 IN A+ (in), 2 ~{DIS A} (in), 9 OUT A (hiz), 10 IN A- (in)
part B pins: 4 ~{DIS B} (in), 5 IN B+ (in), 6 IN B- (in), 7 OUT B (hiz)

## OPA2684ID
designator U?
Dual, Low Power, Current Feedback Operational Amplifier, 5 to 12 V, -40 to 85 degC, 8-pin SOIC (D8), Green (RoHS & no Sb/Br); Manufacturer: Texas Instruments; PartNumber: OPA2684ID; 2nd Harmonic(dBc): 80; @ MHz: 5; Acl, min stable gain(V/V): 1; BW @ Acl(MHz): 210; Diff Gain(%): 0.04; Diff Phase(deg): 0.02; Iib(Max)(nA): 13000; Io(Typ)(mA): 120; Iq per channel(Max)(mA): 3.9; Number of Channels: 2; Settling Time (0.1%)(Typ)(ns): 11; Slew Rate(Typ)(V/us): 820; Sub Family: High Output Current Amplifier (>=50mA), High Speed Amplifier (>=50MHz); THD (Fc is 1 MHz)(Typ)(dB): -79; Vio(Max)(mV): 3.5; Vn at Flatband(Typ)(nV/rtHz): 3.7; Vs(Max)(V): 12; DatasheetVersion: SBOS239D; PackageVersion: 4040047-3/M, 06/2011; PackageReference: D8; PackageDescription: 8-Pin Plastic Small Outline, Body 4.9 x 3.9 mm, Pitch 1.27 mm; Supplier 1: Digi-Key; Supplier Part Number 1: 296-13463-5-ND; Supplier 2: Newark; Supplier Part Number 2: 75C4791; Supplier 3: Mouser; Supplier Part Number 3: 595-OPA2684ID; 3rd Harmonic(dBc): 80; Eco-Plan: Green (RoHS & no Sb/Br); Vs(Min)(V): 5; Mounting Technology: Surface Mount; Code_JEDEC: MS-012; ComponentLink1Description: Manufacturer URL; ComponentLink1URL: http://www.ti.com/; ComponentLink2Description: Datasheet; ComponentLink2URL: http://www.ti.com/general/docs/lit/getliterature.tsp?genericPartNumber=OPA2684&fileType=pdf; ComponentLink3Description: Package Specification; ComponentLink3URL: http://www.ti.com/litv/pdf/msoi002j
footprint TI-D8_N (SOIC, 8-Leads, Body 4.9x3.9mm, Pitch 1.27mm, IPC Medium Density)
footprint TI-D8_L (SOIC, 8-Leads, Body 4.9x3.9mm, Pitch 1.27mm, IPC High Density)
footprint TI-D8_M (SOIC, 8-Leads, Body 4.9x3.9mm, Pitch 1.27mm, IPC Low Density)
pins on every part: 4 VS- (power), 8 VS+ (power)
part A pins: 1 OUT A (out), 2 IN A- (in), 3 IN A+ (in)
part B pins: 5 IN B+ (in), 6 IN B- (in), 7 OUT B (out)